# Altium schematic symbol library USB4125-GF-A.SchLib: 1 symbol
Pins are listed as number, name and electrical type; pins without a type are passive.

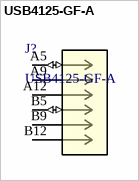
[diagram p0: symbol USB4125-GF-A]

## USB4125-GF-A
designator J?
Description; Manufacturer_Name: Global Connector Technology; Type: USB, DVI, HDMI, Connectors; Copyright: Copyright (C) 2025 Ultra Librarian. All rights reserved.; Manufacturer_Part_Number: USB4125-GF-A; RefDes: RefDes
footprint CONN6_USB4125_GCT
pins: A5 B12 (io), A9 B9 (power), A12 A5 (power), B5 (io), B9 A9 (power), B12 A12 (power)